# EAGLE library part STM32C011F (library Bits_library_eagle)
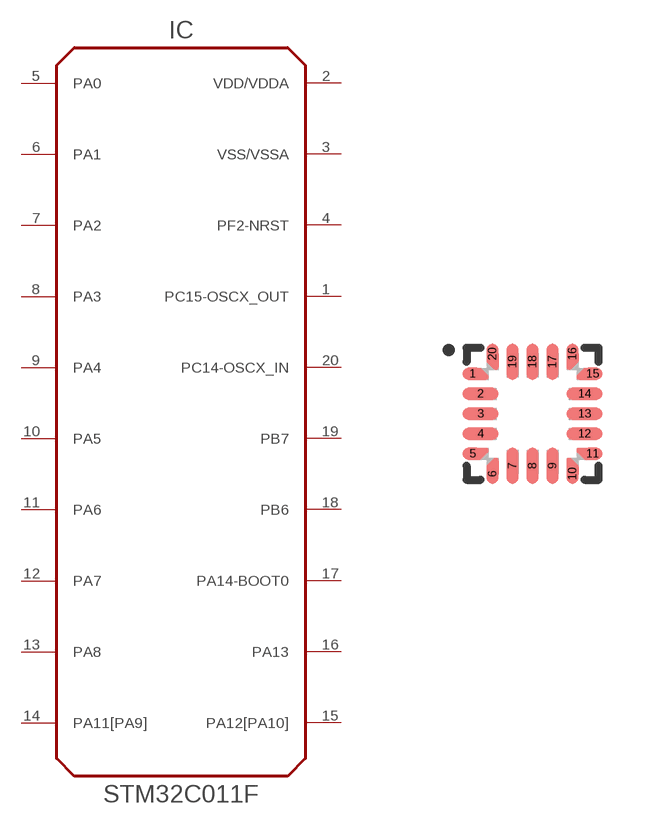
[diagram p88: symbol with the pads of UFQFPN-20; footprint UFQFPN-20]

Designator prefix IC

## STM32C011FXU  [UFQFPN-20]
1  PC15-OSCX_OUT
2  VDD/VDDA  pwr
3  VSS/VSSA  pwr
4  PF2-NRST
5  PA0
6  PA1
7  PA2
8  PA3
9  PA4
10  PA5
11  PA6
12  PA7
13  PA8
14  PA11[PA9]
15  PA12[PA10]
16  PA13
17  PA14-BOOT0
18  PB6
19  PB7
20  PC14-OSCX_IN

## Footprint UFQFPN-20 (pad centres in mm)
smd 0.5 x 0.3: 1 -1.5,1; 5 -1.5,-1; 11 1.5,-1; 15 1.5,1
smd 0.9 x 0.3: 2 -1.3,0.5; 3 -1.3,0; 4 -1.3,-0.5; 12 1.3,-0.5; 13 1.3,0; 14 1.3,0.5
smd 0.3 x 0.5: 6 -1,-1.5; 10 1,-1.5; 16 1,1.5; 20 -1,1.5
smd 0.3 x 0.9: 7 -0.5,-1.3; 8 0,-1.3; 9 0.5,-1.3; 17 0.5,1.3; 18 0,1.3; 19 -0.5,1.3